# Altium footprint library Specialty Components.PcbLib: 9 footprints
Each footprint in its own frame and in the unit in brackets; x right, y up, seen from the top. Pads: shape width x height; smd on the part's side, far side on the other; paste and mask are expansions set on the pad; w line width, h text height; cw(c..) or ccw(c..) is an arc to the next point about the centre after c.
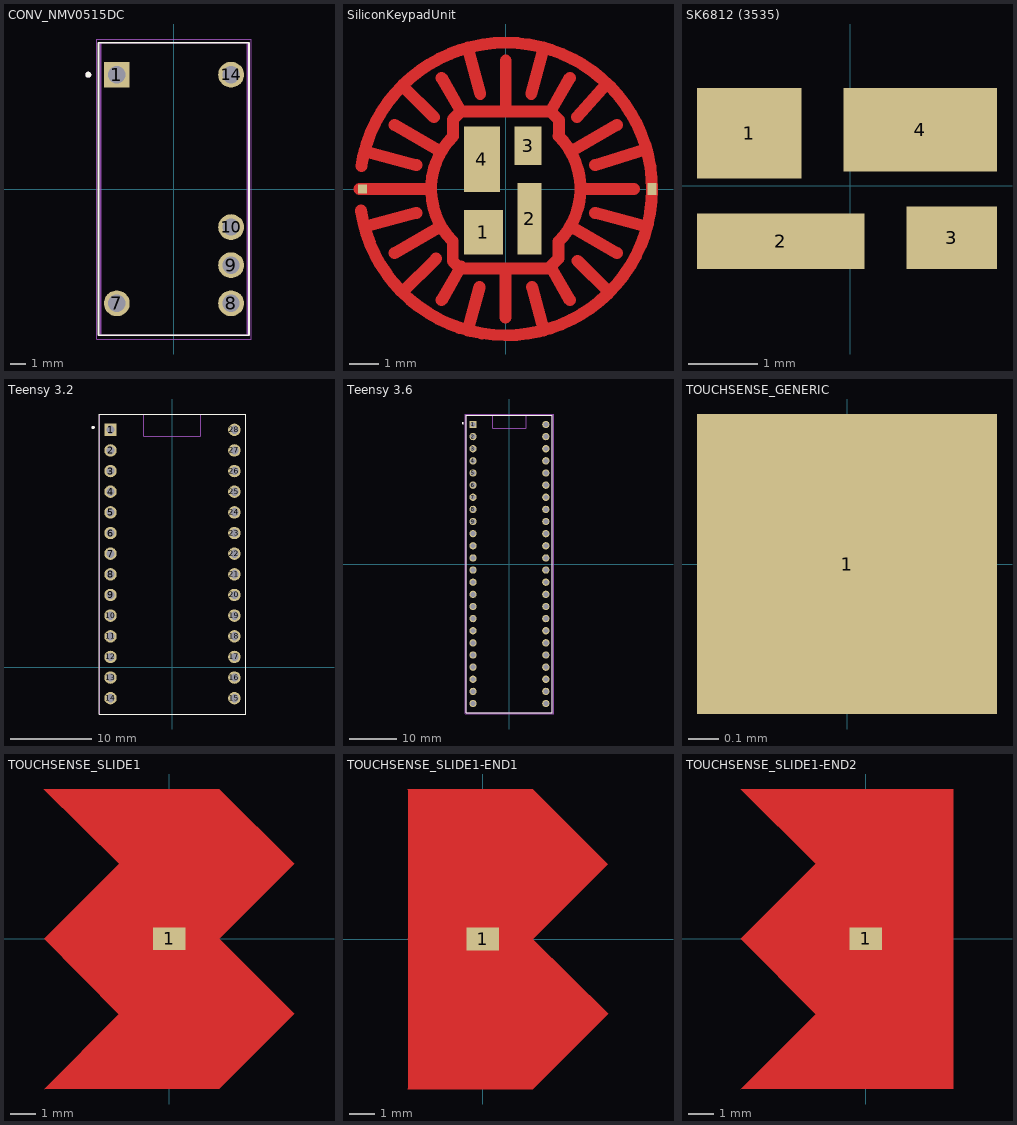
[diagram p0: the footprints below, top view; thin cyan lines are the x and y axes]

## CONV_NMV0515DC [mm]
pads (6):
  rect 1.725x1.725 hole 1.15: 1(-3.81,7.62)
  round 1.725 hole 1.15: 7(-3.81,-7.62) 8(3.81,-7.62) 9(3.81,-5.08) 10(3.81,-2.54) 14(3.81,7.62)
Top Overlay:
  circle w0.2: c-5.71,7.62 r0.1
  lines w0.127: -5.03,-9.75 -5.03,9.75 5.01,9.75 5.01,-9.75 -5.03,-9.75
Mechanical 13:
  circle w0.2: c-5.71,7.62 r0.1
  lines w0.127: -4.9,-9.75 -4.9,9.75 4.9,9.75 4.9,-9.75 -4.9,-9.75
Mechanical 15:
  lines w0.05: -5.15,-10 -5.15,10 5.15,10 5.15,-10 -5.15,-10

## SiliconKeypadUnit [mm]
pads (6):
  rect 1.3x1.5 smd: 1(-0.75,-1.45)
  rect 0.8x2.4 smd: 2(0.8,-1)
  rect 0.9x1.3 smd: 3(0.75,1.45)
  rect 1.2x2.2 smd: 4(-0.8,1)
  rect 0.3x0.3 smd: SW1(-4.8,0)
  rect 0.3x0.4 smd: SW2(4.9,0)
Top Layer:
  lines w0.4: -4.9,0 -2.5,0 ; -4.846,-0.727 ccw(c0,0) -4.84,0.764 ; -4.733,-1.268 -2.994,-0.802 ; -4.733,1.268 -2.994,0.802 ; -3.724,-2.15 -2.165,-1.25 ; -3.724,2.15 -2.165,1.25 ; -3.465,-3.465 -2.333,-2.333 ; -3.465,3.465 -2.404,2.404 ; -2.15,-3.724 -1.5,-2.598 ; -2.15,3.724 -1.5,2.598 ; -1.805,-1.729 cw(c0,0) -1.768,1.768 -1.768,2.33 -1.5,2.598 ; -1.775,-1.742 -1.775,-2.416 -1.524,-2.667 1.424,-2.667 1.77,-2.321 1.77,-1.759 ccw(c0.002,0.009) 1.77,1.777 ; -1.268,-4.733 -0.88,-3.284 ; -1.268,4.733 -0.854,3.188 ; -0.014,-4.311 -0.014,-2.7 ; 0,2.598 0,4.3 ; 0.854,3.188 1.268,4.733 ; 0.88,-3.284 1.268,-4.733 ; 1.5,-2.598 2.15,-3.724 ; 1.51,2.582 1.778,2.314 1.778,1.751 ; 2.15,3.724 1.5,2.598 -1.5,2.598 ; 2.165,-1.25 3.724,-2.15 ; 2.165,1.25 3.724,2.15 ; 2.392,2.415 3.378,3.515 ; 2.404,-2.404 3.465,-3.465 ; 2.5,0 4.3,0 ; 2.994,-0.802 4.733,-1.268 ; 2.994,0.802 4.646,1.318
Top Solder:
  circle w3: c0,0 r3.7
3D body "SMD3535 RGB.stp": height 1, standoff 0, extent -1.75,-1.85 1.75,1.85

## SK6812 (3535) [mm] "Neopixel Mini"
pads (4):
  rect 1.5x1.3 smd: 1(-1.45,0.75)
  rect 2.4x0.8 smd: 2(-1,-0.8)
  rect 1.3x0.9 smd: 3(1.45,-0.75)
  rect 2.2x1.2 smd: 4(1,0.8)
3D body "SMD3535 RGB.stp": height 1, standoff 0, extent -1.85,-1.75 1.85,1.75

## Teensy 3.2 [mm]
pads (28):
  rect 1.53x1.53 hole 1.02: 1(-7.62,29.21)
  round 1.53 hole 1.02: 2(-7.62,26.67) 3(-7.62,24.13) 4(-7.62,21.59) 5(-7.62,19.05) 6(-7.62,16.51) 7(-7.62,13.97) 8(-7.62,11.43) 9(-7.62,8.89) 10(-7.62,6.35) 11(-7.62,3.81) 12(-7.62,1.27) 13(-7.62,-1.27) 14(-7.62,-3.81) 15(7.62,-3.81) 16(7.62,-1.27) 17(7.62,1.27) 18(7.62,3.81) 19(7.62,6.35) 20(7.62,8.89) 21(7.62,11.43) 22(7.62,13.97) 23(7.62,16.51) 24(7.62,19.05) 25(7.62,21.59) 26(7.62,24.13) 27(7.62,26.67) 28(7.62,29.21)
Top Overlay:
  circle w0.2: c-9.75,29.5 r0.1
  lines w0.127: -9,-5.75 9,-5.75 9,31.15 -9,31.15 -9,-5.75
Mechanical 13:
  circle w0.2: c-9.75,29.5 r0.1
  lines w0.127: -9,31.1 -9,-5.75 9,-5.75 9,31.1 ; -9,31.15 9,31.15 ; -3.5,31.1 -3.5,28.4 3.4,28.4 ; 3.5,28.4 3.5,31.1
3D body "Teensy_3_2.stp": height 5.99, standoff 1.5, extent -8.964,-5.1 8.964,31.879

## Teensy 3.6 [mm]
pads (48):
  rect 1.53x1.53 hole 1.02: 1(-7.62,29.21)
  round 1.53 hole 1.02: 2(-7.62,26.67) 3(-7.62,24.13) 4(-7.62,21.59) 5(-7.62,19.05) 6(-7.62,16.51) 7(-7.62,13.97) 8(-7.62,11.43) 9(-7.62,8.89) 10(-7.62,6.35) 11(-7.62,3.81) 12(-7.62,1.27) 13(-7.62,-1.27) 14(-7.62,-3.81) 15(-7.62,-6.35) 16(-7.62,-8.89) 17(-7.62,-11.43) 18(-7.62,-13.97) 19(-7.62,-16.51) 20(-7.62,-19.05) 21(-7.62,-21.59) 22(-7.62,-24.13) 23(-7.62,-26.67) 24(-7.62,-29.21) 25(7.62,-29.21) 26(7.62,-26.67) 27(7.62,-24.13) 28(7.62,-21.59) 29(7.62,-19.05) 30(7.62,-16.51) 31(7.62,-13.97) 32(7.62,-11.43) 33(7.62,-8.89) 34(7.62,-6.35) 35(7.62,-3.81) 36(7.62,-1.27) 37(7.62,1.27) 38(7.62,3.81) 39(7.62,6.35) 40(7.62,8.89) 41(7.62,11.43) 42(7.62,13.97) 43(7.62,16.51) 44(7.62,19.05) 45(7.62,21.59) 46(7.62,24.13) 47(7.62,26.67) 48(7.62,29.21)
Top Overlay:
  circle w0.2: c-9.75,29.5 r0.1
  lines w0.127: -9,-31.15 9,-31.15 9,31.15 -9,31.15 -9,-31.15
Mechanical 13:
  circle w0.2: c-9.75,29.5 r0.1
  lines w0.127: -3.5,31.1 -3.5,28.4 3.4,28.4 ; 3.5,28.4 3.5,31.1 ; -9,-31.15 9,-31.15 9,31.15 -9,31.15 -9,-31.15
Mechanical 15:
  lines w0.05: -9.25,-31.4 -9.25,31.4 9.25,31.4 9.25,-31.4 -9.25,-31.4

## TOUCHSENSE_GENERIC [mm]
pads (1):
  rect 1x1 smd paste+0 mask+0: 1(0,0)

## TOUCHSENSE_SLIDE1 [mm] "Touch Pad, Slide 1"
pads (1):
  rect 1.3x0.9 smd: 1(0,0)
Top Layer:
  region: -5,6 -2,3 -5,0 -2,-3 -5,-6 2,-6 5,-3 2,0 5,3 2,6
Top Solder:
  region: -5,6 -2,3 -5,0 -2,-3 -5,-6 2,-6 5,-3 2,0 5,3 2,6

## TOUCHSENSE_SLIDE1-END1 [mm] "Touch Pad, Slide 1"
pads (1):
  rect 1.3x0.9 smd: 1(0,0)
Top Layer:
  rectangle: -3,-6 -1.5,6
  region: -3,6 -2,3 -3,0 -2,-3 -3,-6 2,-6 5,-3 2,0 5,3 2,6
Top Solder:
  rectangle: -3,-6 -1.5,6
  region: -3,6 -2,3 -3,0 -2,-3 -3,-6 2,-6 5,-3 2,0 5,3 2,6

## TOUCHSENSE_SLIDE1-END2 [mm] "Touch Pad, Slide 1, END"
pads (1):
  rect 1.3x0.9 smd: 1(0,0)
Top Layer:
  region: 3.5,6 3.5,-6 2,-6 2,6
  region: -5,6 -2,3 -5,0 -2,-3 -5,-6 2,-6 3.5,-3 2,0 3.5,3 2,6
Top Solder:
  region: 3.5,6 3.5,-6 2,-6 2,6
  region: -5,6 -2,3 -5,0 -2,-3 -5,-6 2,-6 3.5,-3 2,0 3.5,3 2,6